# Altium schematic symbol library BC337-40.SchLib: 1 symbol
Pins are listed as number, name and electrical type; pins without a type are passive.

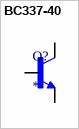
[diagram p0: symbol BC337-40]

## BC337-40
designator Q?
Semiconductors and Actives, NPN BJT, Transistors, Discretes (diodes, transistors, thyristors ...), BJTs; MF: ON Semiconductor; MP: BC337-40; Value: *; Purchase-URL: https://pricing.snapeda.com/search/part/BC337-40/?ref=eda; Package: E-PKG AXIAL-LEADED-2 ON Semiconductor; Check_prices: https://www.snapeda.com/parts/BC337-40/Onsemi/view-part/?ref=eda; SnapEDA_Link: https://www.snapeda.com/parts/BC337-40/Onsemi/view-part/?ref=snap; Price: None; Availability: In Stock
footprint TO92250P510H770-3
pins: 1 C, 2 B, 3 E